# Altium footprint library MLX90393_demo.PcbLib: 6 footprints
Each footprint in its own frame and in the unit in brackets; x right, y up, seen from the top. Pads: shape width x height; smd on the part's side, far side on the other; paste and mask are expansions set on the pad; w line width, h text height; cw(c..) or ccw(c..) is an arc to the next point about the centre after c.
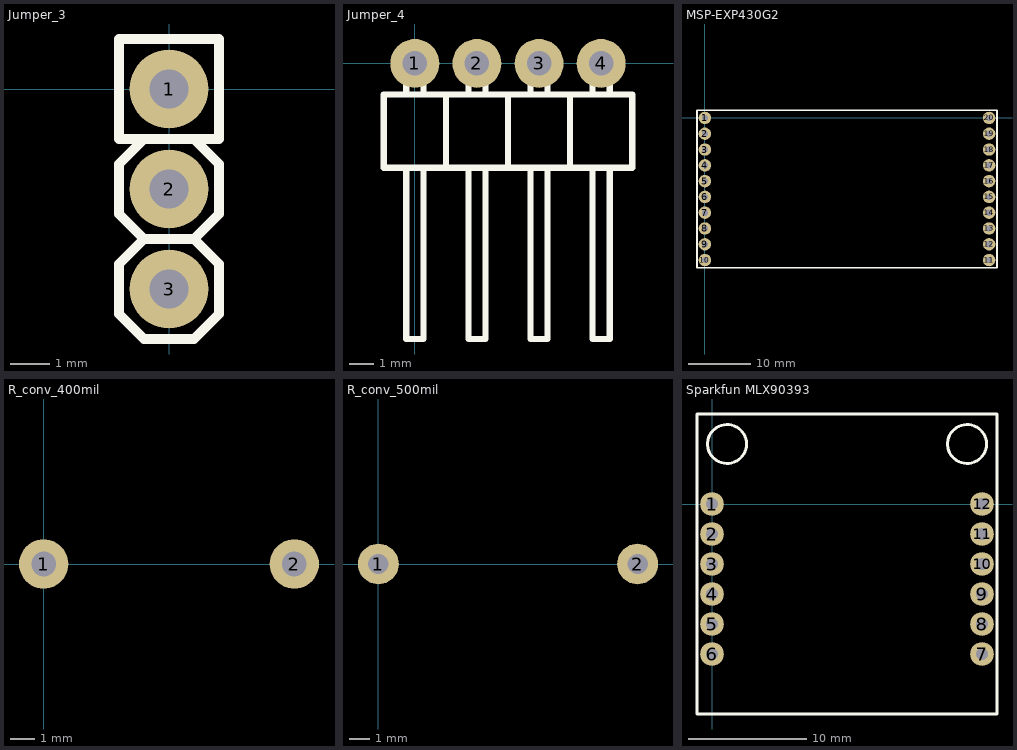
[diagram p0: the footprints below, top view; thin cyan lines are the x and y axes]

## Jumper_3 [mm]
pads (3):
  round 2 hole 1: 1(0,0) 2(0,-2.54) 3(0,-5.08)
Top Overlay:
  lines w0.254: -0.635,-3.81 0.635,-3.81 ; -0.635,-3.81 -1.27,-4.445 -1.27,-5.715 -0.635,-6.35 0.635,-6.35 1.27,-5.715 1.27,-4.445 0.635,-3.81 ; -0.635,-3.81 -1.27,-3.175 -1.27,-1.905 -0.635,-1.27 ; -0.635,-3.81 0.635,-3.81 ; -0.635,-1.27 -1.27,-1.27 -1.27,1.27 1.27,1.27 1.27,-1.27 0.635,-1.27 ; -0.635,-1.27 0.635,-1.27 ; -0.635,-1.27 0.635,-1.27 ; 0.635,-3.81 1.27,-3.175 1.27,-1.905 0.635,-1.27
3D body: height 0.25, standoff 0, extent 1.27,7.62 1.27,7.62
3D body: height 10, standoff -2.5, extent -0.35,-5.43 0.35,-4.73
3D body: height 10, standoff -2.5, extent -0.35,-2.89 0.35,-2.19
3D body: height 10, standoff -2.5, extent -0.35,-0.35 0.35,0.35
3D body: height 3, standoff 0, extent -1.27,-3.81 1.27,-1.27
3D body: height 3, standoff 0, extent -1.27,-6.35 1.27,-3.81
3D body: height 3, standoff 0, extent -1.27,-1.27 1.27,1.27

## Jumper_4 [mm]
pads (4):
  round 2 hole 1: 1(0,0) 2(2.54,0) 3(5.08,0) 4(7.62,0)
Top Overlay:
  lines w0.254: -0.35,-4.27 -0.35,-11.27 0.35,-11.27 0.35,-4.27 ; -0.35,-1.27 -0.35,0.4 0.35,0.4 0.35,-1.27 ; 1.27,-4.27 1.27,-1.27 ; 2.19,-4.27 2.19,-11.27 2.89,-11.27 2.89,-4.27 ; 2.19,-1.27 2.19,0.4 2.89,0.4 2.89,-1.27 ; 3.81,-4.27 3.81,-1.27 ; 4.73,-4.27 4.73,-11.27 5.43,-11.27 5.43,-4.27 ; 4.73,-1.27 4.73,0.4 5.43,0.4 5.43,-1.27 ; 6.35,-4.27 6.35,-1.27 ; 7.27,-4.27 7.27,-11.27 7.97,-11.27 7.97,-4.27 ; 7.27,-1.27 7.27,0.4 7.97,0.4 7.97,-1.27 ; -1.27,-4.27 -1.27,-1.27 8.89,-1.27 8.89,-4.27 -1.27,-4.27
3D body: height 2.54, standoff 0, extent -1.27,-4.27 1.27,-1.27
3D body: height 1.62, standoff -2.5, extent -0.35,-0.35 0.35,0.35
3D body: height 2.54, standoff 0, extent 1.27,-4.27 3.81,-1.27
3D body: height 1.62, standoff -2.5, extent 2.19,-0.35 2.89,0.35
3D body: height 2.54, standoff 0, extent 3.81,-4.27 6.35,-1.27
3D body: height 1.62, standoff -2.5, extent 4.73,-0.35 5.43,0.35
3D body: height 2.54, standoff 0, extent 6.35,-4.27 8.89,-1.27
3D body: height 1.62, standoff -2.5, extent 7.27,-0.35 7.97,0.35
3D body: height 1.62, standoff 0.92, extent -0.35,-11.27 0.35,0.35
3D body: height 1.62, standoff 0.92, extent 2.19,-11.27 2.89,0.35
3D body: height 1.62, standoff 0.92, extent 4.73,-11.27 5.43,0.35
3D body: height 1.62, standoff 0.92, extent 7.27,-11.27 7.97,0.35

## MSP-EXP430G2 [mm]
pads (20):
  round 2 hole 1: 1(0,0) 2(0,-2.54) 3(0,-5.08) 4(0,-7.62) 5(0,-10.16) 6(0,-12.7) 7(0,-15.24) 8(0,-17.78) 9(0,-20.32) 10(0,-22.86) 11(45.72,-22.86) 12(45.72,-20.32) 13(45.72,-17.78) 14(45.72,-15.24) 15(45.72,-12.7) 16(45.72,-10.16) 17(45.72,-7.62) 18(45.72,-5.08) 19(45.72,-2.54) 20(45.72,0)
Top Overlay:
  lines w0.254: -1.27,-24.13 46.99,-24.13 46.99,1.27 -1.27,1.27 -1.27,-24.13
3D body: height -1.5, standoff -8, extent -1.27,-1.27 1.27,1.27
3D body: height -1.5, standoff -8, extent -1.27,-11.43 1.27,-8.89
3D body: height -1.5, standoff -8, extent -1.27,-19.05 1.27,-16.51
3D body: height -1.5, standoff -8, extent -1.27,-3.81 1.27,-1.27
3D body: height -1.5, standoff -8, extent -1.27,-6.35 1.27,-3.81
3D body: height -1.5, standoff -8, extent -1.27,-8.89 1.27,-6.35
3D body: height -1.5, standoff -8, extent -1.27,-16.51 1.27,-13.97
3D body: height -1.5, standoff -8, extent -1.27,-13.97 1.27,-11.43
3D body: height -1.5, standoff -8, extent -1.27,-24.13 1.27,-21.59
3D body: height -1.5, standoff -8, extent -1.27,-21.59 1.27,-19.05
3D body: height -1.5, standoff -8, extent 44.45,-11.43 46.99,-8.89
3D body: height -1.5, standoff -8, extent 44.45,-1.27 46.99,1.27
3D body: height -1.5, standoff -8, extent 44.45,-19.05 46.99,-16.51
3D body: height -1.5, standoff -8, extent 44.45,-8.89 46.99,-6.35
3D body: height -1.5, standoff -8, extent 44.45,-6.35 46.99,-3.81
3D body: height -1.5, standoff -8, extent 44.45,-3.81 46.99,-1.27
3D body: height -1.5, standoff -8, extent 44.45,-16.51 46.99,-13.97
3D body: height -1.5, standoff -8, extent 44.45,-13.97 46.99,-11.43
3D body: height -1.5, standoff -8, extent 44.45,-24.13 46.99,-21.59
3D body: height -1.5, standoff -8, extent 44.45,-21.59 46.99,-19.05
3D body: height 1, standoff -1.5, extent -0.35,-0.35 0.35,0.35
3D body: height 1, standoff -1.5, extent -0.35,-10.51 0.35,-9.81
3D body: height 1, standoff -1.5, extent -0.35,-20.67 0.35,-19.97
3D body: height 1, standoff -1.5, extent -0.35,-2.89 0.35,-2.19
3D body: height 1, standoff -1.5, extent -0.35,-5.43 0.35,-4.73
3D body: height 1, standoff -1.5, extent -0.35,-7.97 0.35,-7.27
3D body: height 1, standoff -1.5, extent -0.35,-13.05 0.35,-12.35
3D body: height 1, standoff -1.5, extent -0.35,-15.59 0.35,-14.89
3D body: height 1, standoff -1.5, extent -0.35,-18.13 0.35,-17.43
3D body: height 1, standoff -1.5, extent -0.35,-23.21 0.35,-22.51
3D body: height 1, standoff -1.5, extent 45.37,-0.35 46.07,0.35
3D body: height 1, standoff -1.5, extent 45.37,-10.51 46.07,-9.81
3D body: height 1, standoff -1.5, extent 45.37,-20.67 46.07,-19.97
3D body: height 1, standoff -1.5, extent 45.37,-2.89 46.07,-2.19
3D body: height 1, standoff -1.5, extent 45.37,-5.43 46.07,-4.73
3D body: height 1, standoff -1.5, extent 45.37,-7.97 46.07,-7.27
3D body: height 1, standoff -1.5, extent 45.37,-13.05 46.07,-12.35
3D body: height 1, standoff -1.5, extent 45.37,-15.59 46.07,-14.89
3D body: height 1, standoff -1.5, extent 45.37,-18.13 46.07,-17.43
3D body: height 1, standoff -1.5, extent 45.37,-23.21 46.07,-22.51

## R_conv_400mil [mm]
pads (2):
  round 2 hole 1: 1(0,0) 2(10.16,0)
3D body: height 1.75, standoff 1.25, extent 9.91,-0.246 10.41,0.246
3D body: height 1.5, standoff -2.5, extent 9.911,-0.25 10.41,0.25
3D body: height 1.75, standoff 1.25, extent 5.66,-0.25 10.16,0.25
3D body: height 0.25, standoff 0, extent 10.16,0 10.16,0
3D body: height 0.25, standoff 0, extent 0,0 0,0
3D body: height 2.74, standoff 0.25, extent 1.62,-1.248 8.62,1.248
3D body: height 1.75, standoff 1.25, extent 0,-0.25 4.5,0.25
3D body: height 1.5, standoff -2.5, extent -0.25,-0.25 0.249,0.25
3D body: height 1.75, standoff 1.25, extent -0.25,-0.246 0.25,0.246

## R_conv_500mil [mm]
pads (2):
  round 2 hole 1: 1(0,0) 2(12.7,0)
3D body: height 1.75, standoff 1.25, extent 12.45,-0.246 12.95,0.246
3D body: height 1.5, standoff -2.5, extent 12.451,-0.25 12.95,0.25
3D body: height 1.75, standoff 1.25, extent 8.2,-0.25 12.7,0.25
3D body: height 0.25, standoff 0, extent 10.16,0 10.16,0
3D body: height 0.25, standoff 0, extent 0,0 0,0
3D body: height 2.74, standoff 0.25, extent 2.89,-1.248 9.89,1.248
3D body: height 1.75, standoff 1.25, extent 0,-0.25 4.5,0.25
3D body: height 1.5, standoff -2.5, extent -0.25,-0.25 0.249,0.25
3D body: height 1.75, standoff 1.25, extent -0.25,-0.246 0.25,0.246

## Sparkfun MLX90393 [mm]
pads (12):
  round 2 hole 1: 1(0,0) 2(0,-2.54) 3(0,-5.08) 4(0,-7.62) 5(0,-10.16) 6(0,-12.7) 7(22.86,-12.7) 8(22.86,-10.16) 9(22.86,-7.62) 10(22.86,-5.08) 11(22.86,-2.54) 12(22.86,0)
Top Overlay:
  circle w0.254: c21.59,5.08 r1.651
  circle w0.254: c1.27,5.08 r1.651
  lines w0.254: -1.27,-17.78 24.13,-17.78 24.13,7.62 -1.27,7.62 -1.27,-17.78
3D body: height 4.5, standoff 3, extent -1.27,-17.78 24.13,7.62
3D body: height 3, standoff 0, extent 21.59,-1.27 24.13,1.27
3D body: height 3, standoff 0, extent 21.59,-11.43 24.13,-8.89
3D body: height 3, standoff 0, extent -1.27,-11.43 1.27,-8.89
3D body: height 3, standoff 0, extent -1.27,-1.27 1.27,1.27
3D body: height 3, standoff 0, extent 21.59,-3.81 24.13,-1.27
3D body: height 3, standoff 0, extent 21.59,-6.35 24.13,-3.81
3D body: height 3, standoff 0, extent 21.59,-8.89 24.13,-6.35
3D body: height 3, standoff 0, extent 21.59,-13.97 24.13,-11.43
3D body: height 3, standoff 0, extent -1.27,-8.89 1.27,-6.35
3D body: height 3, standoff 0, extent -1.27,-6.35 1.27,-3.81
3D body: height 3, standoff 0, extent -1.27,-3.81 1.27,-1.27
3D body: height 3, standoff 0, extent -1.27,-13.97 1.27,-11.43
3D body: height 6.5, standoff -2.5, extent -0.35,-0.35 0.35,0.35
3D body: height 6.5, standoff -2.5, extent -0.35,-10.51 0.35,-9.81
3D body: height 6.5, standoff -2.5, extent -0.35,-2.89 0.35,-2.19
3D body: height 6.5, standoff -2.5, extent -0.35,-5.43 0.35,-4.73
3D body: height 6.5, standoff -2.5, extent -0.35,-7.97 0.35,-7.27
3D body: height 6.5, standoff -2.5, extent -0.35,-13.05 0.35,-12.35
3D body: height 6.5, standoff -2.5, extent 22.51,-0.35 23.21,0.35
3D body: height 6.5, standoff -2.5, extent 22.51,-10.51 23.21,-9.81
3D body: height 6.5, standoff -2.5, extent 22.51,-2.89 23.21,-2.19
3D body: height 6.5, standoff -2.5, extent 22.51,-5.43 23.21,-4.73
3D body: height 6.5, standoff -2.5, extent 22.51,-7.97 23.21,-7.27
3D body: height 6.5, standoff -2.5, extent 22.51,-13.05 23.21,-12.35
3D body: height 0.25, standoff 0, extent 1.27,7.62 1.27,7.62